# EAGLE library part TLC4040 (library Power > Power management)
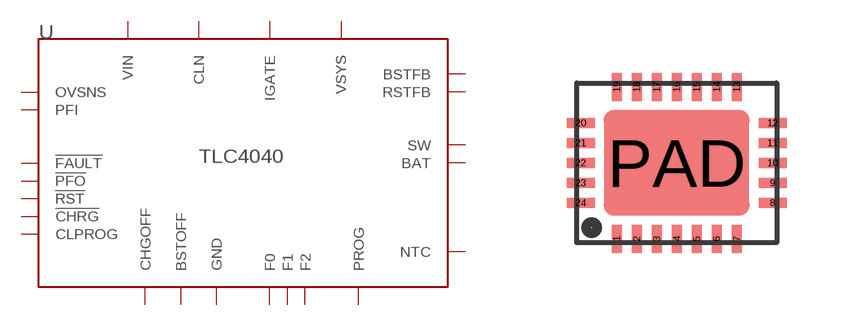
[diagram p1: symbol with the pads of UFD_24QFN; footprint UFD_24QFN]

Designator prefix U

## TLC4040  [UFD_24QFN]
1  VSYS
2  PROG
3  CLPROG
4  CHGOFF
5  BSTOFF
6  VIN
7  CLN
8  !CHRG
9  !FAULT
10  RSTFB
11  !RST
12  F2
13  F1
14  F0
15  IGATE
16  OVSNS
17  NTC
18  BSTFB
19  PFI
20  !PFO
21  SW
22  SW
23  BAT
24  VSYS
PAD  GND

## Footprint UFD_24QFN (pad centres in mm)
smd 0.25 x 0.7: 1 -1.5,-1.9; 2 -1,-1.9; 3 -0.5,-1.9; 4 0,-1.9; 5 0.5,-1.9; 6 1,-1.9; 7 1.5,-1.9; 13 1.5,1.9; 14 1,1.9; 15 0.5,1.9; 16 0,1.9; 17 -0.5,1.9; 18 -1,1.9; 19 -1.5,1.9
smd 0.7 x 0.25: 8 2.4,-1; 9 2.4,-0.5; 10 2.4,0; 11 2.4,0.5; 12 2.4,1; 20 -2.4,1; 21 -2.4,0.5; 22 -2.4,0; 23 -2.4,-0.5; 24 -2.4,-1
smd 3.65 x 2.65: PAD 0,0